# Altium footprint library B2B-PH-K-S.PcbLib: 2 footprints
Each footprint in its own frame and in the unit in brackets; x right, y up, seen from the top. Pads: shape width x height; smd on the part's side, far side on the other; paste and mask are expansions set on the pad; w line width, h text height; cw(c..) or ccw(c..) is an arc to the next point about the centre after c.
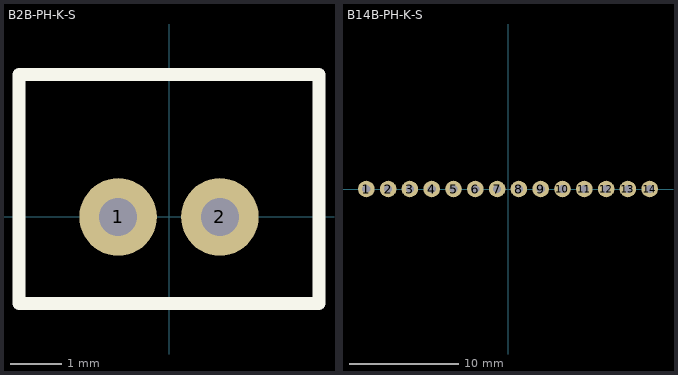
[diagram p0: the footprints below, top view; thin cyan lines are the x and y axes]

## B2B-PH-K-S [mil]
pads (2):
  round 60 hole 29.53: 1(-39.37,0) 2(39.37,0)
Top Overlay:
  lines w10: -116.14,-66.93 116.14,-66.93 116.14,110.24 -116.14,110.24 -116.14,-66.93

## B14B-PH-K-S [mil]
pads (14):
  round 60 hole 29.53: 1(-511.81,0) 2(-433.07,0) 3(-354.33,0) 4(-275.59,0) 5(-196.85,0) 6(-118.11,0) 7(-39.37,0) 8(39.37,0) 9(118.11,0) 10(196.85,0) 11(275.59,0) 12(354.33,0) 13(433.07,0) 14(511.81,0)